# Altium schematic symbol library AD8627KS.Schlib: 1 symbol
Pins are listed as number, name and electrical type; pins without a type are passive.

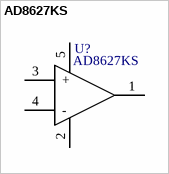
[diagram p0: symbol AD8627KS]

## AD8627KS
designator U?
Назначение: Операционный усилитель; Наименование: AD8627KS
footprint SC70
pins: 1 Vout, 2 Vss-, 3 +, 4 -, 5 Vss+